# EAGLE library part ESP-07 (library home-mind)
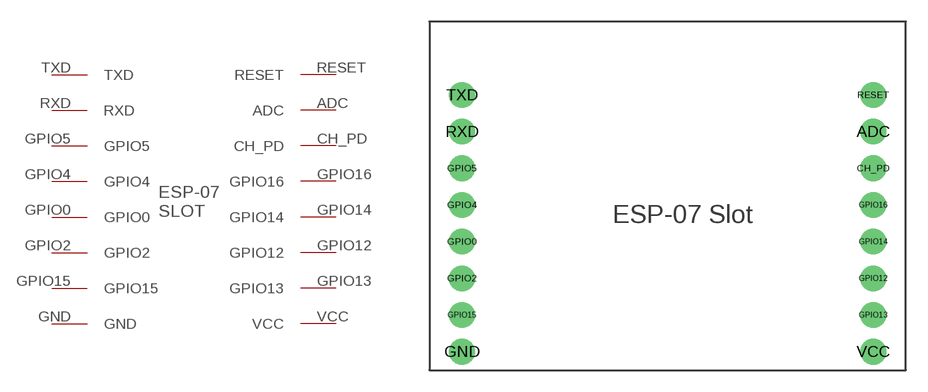
[diagram p7: symbol with the pads of ESP-07; footprint ESP-07]

Designator prefix -

## ESP-07  [ESP-07]
ADC  ADC
CH_PD  CH_PD
GND  GND
GPIO0  GPIO0
GPIO2  GPIO2
GPIO4  GPIO4
GPIO5  GPIO5
GPIO12  GPIO12
GPIO13  GPIO13
GPIO14  GPIO14
GPIO15  GPIO15
GPIO16  GPIO16
RESET  RESET
RXD  RXD
TXD  TXD
VCC  VCC

## Footprint ESP-07 (pad centres in mm)
drill 0.9 pad 1.778: ADC 14.25,6.35; CH_PD 14.25,3.81; GND -14.25,-8.89; GPIO0 -14.25,-1.27; GPIO2 -14.25,-3.81; GPIO4 -14.25,1.27; GPIO5 -14.25,3.81; GPIO12 14.25,-3.81; GPIO13 14.25,-6.35; GPIO14 14.25,-1.27; GPIO15 -14.25,-6.35; GPIO16 14.25,1.27; RESET 14.25,8.89; RXD -14.25,6.35; TXD -14.25,8.89; VCC 14.25,-8.89